# Altium schematic symbol library Amplificadores operacionales alta velocidad.SchLib: 3 symbols
Pins are listed as number, name and electrical type; pins without a type are passive.

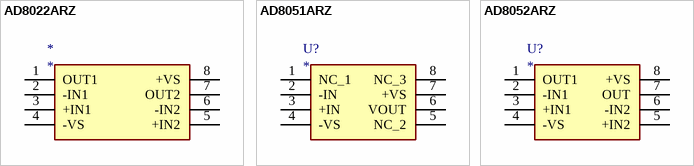
[diagram p0: symbols AD8022ARZ to AD8052ARZ]

## AD8022ARZ
designator *
datasheet: https://www.mouser.es/datasheet/2/609/AD8022-1501984.pdf; ComponentLink1Description: mouser; ComponentLink1URL: https://www.mouser.es/ProductDetail/Analog-Devices/AD8022ARZ?qs=%2FtpEQrCGXCw%2FkrqAvlVUSg%3D%3D
footprint SOIC127P600X175-8N
pins: 1 OUT1, 2 -IN1, 3 +IN1, 4 -VS, 5 +IN2, 6 -IN2, 7 OUT2, 8 +VS

## AD8051ARZ
designator U?
datasheet: https://www.mouser.es/datasheet/2/609/AD8051_8052_8054-1502097.pdf; ComponentLink1Description: mouser; ComponentLink1URL: https://www.mouser.es/ProductDetail/Analog-Devices/AD8051ARZ?qs=%2FtpEQrCGXCzyL2gLF2zx5w%3D%3D
pins: 1 NC_1, 2 -IN, 3 +IN, 4 -VS, 5 NC_2, 6 VOUT, 7 +VS, 8 NC_3

## AD8052ARZ
designator U?
datasheet: https://www.mouser.es/datasheet/2/609/AD8051_8052_8054-1502097.pdf; ComponentLink1Description: mouser; ComponentLink1URL: https://www.mouser.es/ProductDetail/Analog-Devices/AD8052ARZ?qs=%2FtpEQrCGXCy%252BElouaote5w%3D%3D
pins: 1 OUT1, 2 -IN1, 3 +IN1, 4 -VS, 5 +IN2, 6 -IN2, 7 OUT, 8 +VS